# Altium footprint library SOIC-8, NB.PcbLib: 1 footprints
Each footprint in its own frame and in the unit in brackets; x right, y up, seen from the top. Pads: shape width x height; smd on the part's side, far side on the other; paste and mask are expansions set on the pad; w line width, h text height; cw(c..) or ccw(c..) is an arc to the next point about the centre after c.
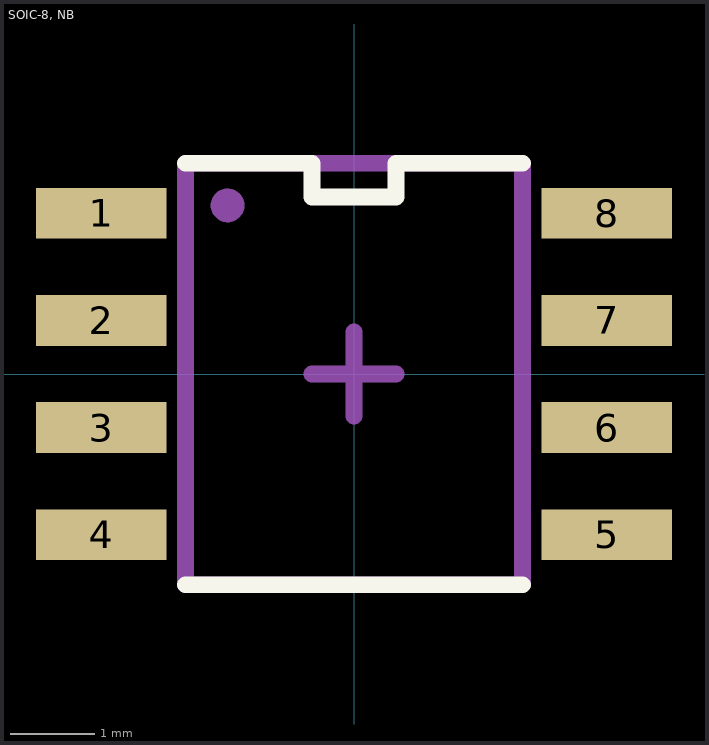
[diagram p0: the footprint, top view; thin cyan lines are the x and y axes]

## SOIC-8, NB [mm] "SOIC-8, NB"
height 1.75
pads (8):
  rect 1.55x0.6 smd mask+0.05: 1(-3,1.905) 2(-3,0.635) 3(-3,-0.635) 4(-3,-1.905) 5(3,-1.905) 6(3,-0.635) 7(3,0.635) 8(3,1.905)
Top Overlay:
  lines w0.2: -2,-2.5 2,-2.5 ; -2,2.5 -0.5,2.5 -0.5,2.1 0.5,2.1 0.5,2.5 2,2.5
Top Assembly:
  circle w0.2: c-1.5,2 r0.1
  lines w0.2: -2,-2.5 2,-2.5 2,2.5 -2,2.5 -2,-2.5
Top Designator:
  text ".Designator" at -3,-3.718 h1.5
Top Component Center:
  lines w0.2: -0.5,0 0.5,0 ; 0,-0.5 0,0.5
3D body "SOIC-8, NB.step": height 1.75, standoff -0.01, extent -3.1,-2.5 3.1,2.5